# EAGLE library part ZRAY_TEST_1_ZRAY_TEST_1 (library ViticultureShield)
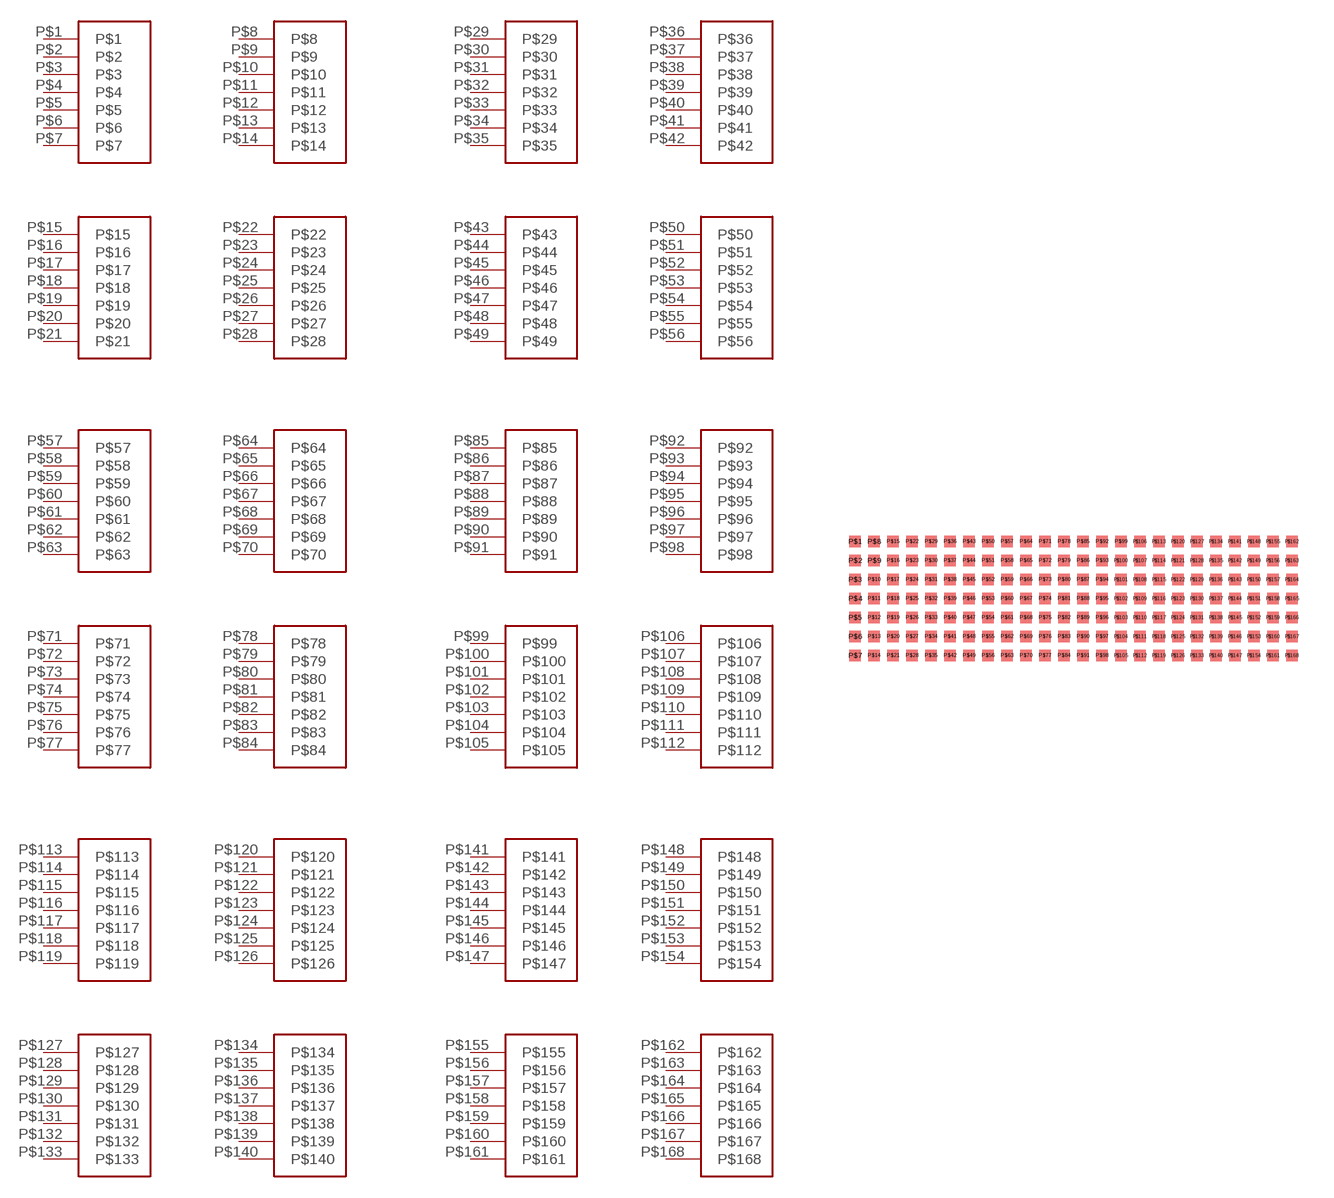
[diagram p0: symbol with the pads of ZRAY_TEST_1_ZRAY_TEST_1; footprint ZRAY_TEST_1_ZRAY_TEST_1]

Designator prefix -

## ZRAY_TEST_1_ZRAY_TEST_1  [ZRAY_TEST_1_ZRAY_TEST_1]
P$1  P$1
P$2  P$2
P$3  P$3
P$4  P$4
P$5  P$5
P$6  P$6
P$7  P$7
P$8  P$8
P$9  P$9
P$10  P$10
P$11  P$11
P$12  P$12
P$13  P$13
P$14  P$14
P$15  P$15
P$16  P$16
P$17  P$17
P$18  P$18
P$19  P$19
P$20  P$20
P$21  P$21
P$22  P$22
P$23  P$23
P$24  P$24
P$25  P$25
P$26  P$26
P$27  P$27
P$28  P$28
P$29  P$29
P$30  P$30
P$31  P$31
P$32  P$32
P$33  P$33
P$34  P$34
P$35  P$35
P$36  P$36
P$37  P$37
P$38  P$38
P$39  P$39
P$40  P$40
P$41  P$41
P$42  P$42
P$43  P$43
P$44  P$44
P$45  P$45
P$46  P$46
P$47  P$47
P$48  P$48
P$49  P$49
P$50  P$50
P$51  P$51
P$52  P$52
P$53  P$53
P$54  P$54
P$55  P$55
P$56  P$56
P$57  P$57
P$58  P$58
P$59  P$59
P$60  P$60
P$61  P$61
P$62  P$62
P$63  P$63
P$64  P$64
P$65  P$65
P$66  P$66
P$67  P$67
P$68  P$68
P$69  P$69
P$70  P$70
P$71  P$71
P$72  P$72
P$73  P$73
P$74  P$74
P$75  P$75
P$76  P$76
P$77  P$77
P$78  P$78
P$79  P$79
P$80  P$80
P$81  P$81
P$82  P$82
P$83  P$83
P$84  P$84
P$85  P$85
P$86  P$86
P$87  P$87
P$88  P$88
P$89  P$89
P$90  P$90
P$91  P$91
P$92  P$92
P$93  P$93
P$94  P$94
P$95  P$95
P$96  P$96
P$97  P$97
P$98  P$98
P$99  P$99
P$100  P$100
P$101  P$101
P$102  P$102
P$103  P$103
P$104  P$104
P$105  P$105
P$106  P$106
P$107  P$107
P$108  P$108
P$109  P$109
P$110  P$110
P$111  P$111
P$112  P$112
P$113  P$113
P$114  P$114
P$115  P$115
P$116  P$116
P$117  P$117
P$118  P$118
P$119  P$119
P$120  P$120
P$121  P$121
P$122  P$122
P$123  P$123
P$124  P$124
P$125  P$125
P$126  P$126
P$127  P$127
P$128  P$128
P$129  P$129
P$130  P$130
P$131  P$131
P$132  P$132
P$133  P$133
P$134  P$134
P$135  P$135
P$136  P$136
P$137  P$137
P$138  P$138
P$139  P$139
P$140  P$140
P$141  P$141
P$142  P$142
P$143  P$143
P$144  P$144
P$145  P$145
P$146  P$146
P$147  P$147
P$148  P$148
P$149  P$149
P$150  P$150
P$151  P$151
P$152  P$152
P$153  P$153
P$154  P$154
P$155  P$155
P$156  P$156
P$157  P$157
P$158  P$158
P$159  P$159
P$160  P$160
P$161  P$161
P$162  P$162
P$163  P$163
P$164  P$164
P$165  P$165
P$166  P$166
P$167  P$167
P$168  P$168

## Footprint ZRAY_TEST_1_ZRAY_TEST_1 (pad centres in mm)
smd 0.5 x 0.5: P$1 0,0; P$2 0,-0.8; P$3 0,-1.6; P$4 0,-2.4; P$5 0,-3.2; P$6 0,-4; P$7 0,-4.8; P$8 0.8,0; P$9 0.8,-0.8; P$10 0.8,-1.6; P$11 0.8,-2.4; P$12 0.8,-3.2; P$13 0.8,-4; P$14 0.8,-4.8; P$15 1.6,0; P$16 1.6,-0.8; P$17 1.6,-1.6; P$18 1.6,-2.4; P$19 1.6,-3.2; P$20 1.6,-4; P$21 1.6,-4.8; P$22 2.4,0; P$23 2.4,-0.8; P$24 2.4,-1.6; P$25 2.4,-2.4; P$26 2.4,-3.2; P$27 2.4,-4; P$28 2.4,-4.8; P$29 3.2,0; P$30 3.2,-0.8; P$31 3.2,-1.6; P$32 3.2,-2.4; P$33 3.2,-3.2; P$34 3.2,-4; P$35 3.2,-4.8; P$36 4,0; P$37 4,-0.8; P$38 4,-1.6; P$39 4,-2.4; P$40 4,-3.2; P$41 4,-4; P$42 4,-4.8; P$43 4.8,0; P$44 4.8,-0.8; P$45 4.8,-1.6; P$46 4.8,-2.4; P$47 4.8,-3.2; P$48 4.8,-4; P$49 4.8,-4.8; P$50 5.6,0; P$51 5.6,-0.8; P$52 5.6,-1.6; P$53 5.6,-2.4; P$54 5.6,-3.2; P$55 5.6,-4; P$56 5.6,-4.8; P$57 6.4,0; P$58 6.4,-0.8; P$59 6.4,-1.6; P$60 6.4,-2.4; P$61 6.4,-3.2; P$62 6.4,-4; P$63 6.4,-4.8; P$64 7.2,0; P$65 7.2,-0.8; P$66 7.2,-1.6; P$67 7.2,-2.4; P$68 7.2,-3.2; P$69 7.2,-4; P$70 7.2,-4.8; P$71 8,0; P$72 8,-0.8; P$73 8,-1.6; P$74 8,-2.4; P$75 8,-3.2; P$76 8,-4; P$77 8,-4.8; P$78 8.8,0; P$79 8.8,-0.8; P$80 8.8,-1.6; P$81 8.8,-2.4; P$82 8.8,-3.2; P$83 8.8,-4; P$84 8.8,-4.8; P$85 9.6,0; P$86 9.6,-0.8; P$87 9.6,-1.6; P$88 9.6,-2.4; P$89 9.6,-3.2; P$90 9.6,-4; P$91 9.6,-4.8; P$92 10.4,0; P$93 10.4,-0.8; P$94 10.4,-1.6; P$95 10.4,-2.4; P$96 10.4,-3.2; P$97 10.4,-4; P$98 10.4,-4.8; P$99 11.2,0; P$100 11.2,-0.8; P$101 11.2,-1.6; P$102 11.2,-2.4; P$103 11.2,-3.2; P$104 11.2,-4; P$105 11.2,-4.8; P$106 12,0; P$107 12,-0.8; P$108 12,-1.6; P$109 12,-2.4; P$110 12,-3.2; P$111 12,-4; P$112 12,-4.8; P$113 12.8,0; P$114 12.8,-0.8; P$115 12.8,-1.6; P$116 12.8,-2.4; P$117 12.8,-3.2; P$118 12.8,-4; P$119 12.8,-4.8; P$120 13.6,0; P$121 13.6,-0.8; P$122 13.6,-1.6; P$123 13.6,-2.4; P$124 13.6,-3.2; P$125 13.6,-4; P$126 13.6,-4.8; P$127 14.4,0; P$128 14.4,-0.8; P$129 14.4,-1.6; P$130 14.4,-2.4; P$131 14.4,-3.2; P$132 14.4,-4; P$133 14.4,-4.8; P$134 15.2,0; P$135 15.2,-0.8; P$136 15.2,-1.6; P$137 15.2,-2.4; P$138 15.2,-3.2; P$139 15.2,-4; P$140 15.2,-4.8; P$141 16,0; P$142 16,-0.8; P$143 16,-1.6; P$144 16,-2.4; P$145 16,-3.2; P$146 16,-4; P$147 16,-4.8; P$148 16.8,0; P$149 16.8,-0.8; P$150 16.8,-1.6; P$151 16.8,-2.4; P$152 16.8,-3.2; P$153 16.8,-4; P$154 16.8,-4.8; P$155 17.6,0; P$156 17.6,-0.8; P$157 17.6,-1.6; P$158 17.6,-2.4; P$159 17.6,-3.2; P$160 17.6,-4; P$161 17.6,-4.8; P$162 18.4,0; P$163 18.4,-0.8; P$164 18.4,-1.6; P$165 18.4,-2.4; P$166 18.4,-3.2; P$167 18.4,-4; P$168 18.4,-4.8